# Altium footprint library Misc.PcbLib: 4 footprints
Each footprint in its own frame and in the unit in brackets; x right, y up, seen from the top. Pads: shape width x height; smd on the part's side, far side on the other; paste and mask are expansions set on the pad; w line width, h text height; cw(c..) or ccw(c..) is an arc to the next point about the centre after c.
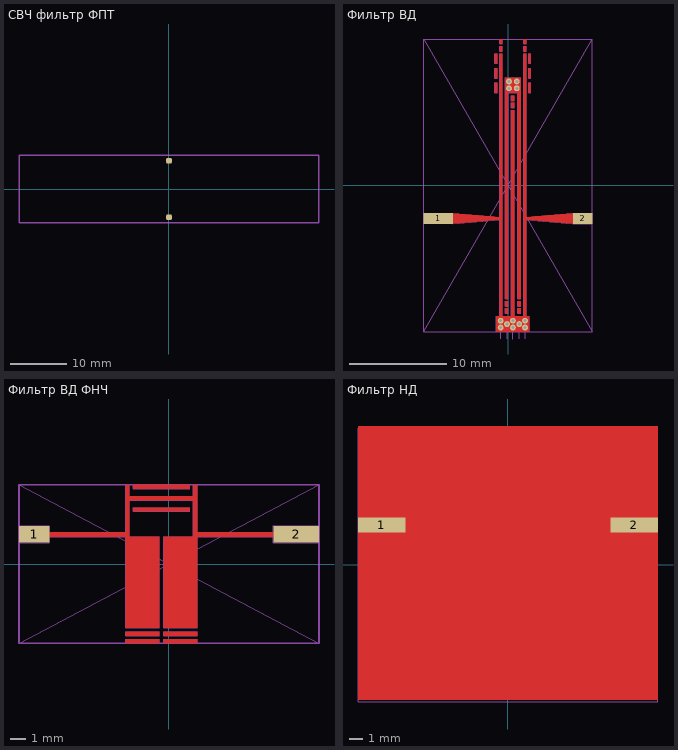
[diagram p0: the footprints below, top view; thin cyan lines are the x and y axes]

## СВЧ фильтр ФПТ [mm]
pads (2):
  rrect50% 1x1 / inner rrect50% 0x0 / far side rrect50% 0x0 all layers, no hole: 1(0,5) 2(0,-5)
Bottom Sborka:
  lines w0.25: -26.5,-6 26.502,-6 ; -26.5,-6 -26.5,6.002 ; -26.5,-6 -26.5,6.002 ; -26.5,-6 26.502,-6 ; -26.5,6.002 26.502,6.002 ; -26.5,6.002 26.502,6.002 ; 26.502,-6 26.502,6.002 ; 26.502,-6 26.502,6.002
Top Sborka:
  lines w0.25: -26.5,-6 -26.5,6 26.5,6 26.5,-6 -26.5,-6
3D body "экран ФПТ(57х16).stp": height 10, standoff -4, extent -27.75,-7.1 27.75,7.4

## Фильтр ВД [mm]
pads (14):
  rect 3x1.1 / inner rect 0x0 / far side rect 0x0 all layers, no hole: 1(-7.15,-3.375)
  rect 2x1.1 / inner rect 0x0 / far side rect 0x0 all layers, no hole: 2(7.65,-3.375)
  round 0.6 hole 0.3: 3(-0.75,-14.55) 3(-0.75,-13.85) 3(-0.1,-14.2) 3(0.1,9.95) 3(0.1,10.65) 3(0.5,-14.55) 3(0.5,-13.85) 3(0.9,9.95) 3(0.9,10.65) 3(1.15,-14.2) 3(1.75,-14.55) 3(1.75,-13.85)
Top Layer:
  region: -5.65,-2.825 -1.75,-3.175 -0.85,-3.25 -0.85,-3.5 -4.967,-3.861 -5.65,-3.926
  region: 6.65,-2.825 2.75,-3.175 1.85,-3.25 1.85,-3.5 5.966,-3.861 6.65,-3.926
  region: -0.85,13.5 -0.6,13.5 -0.6,-13.4 -0.85,-13.4
  region: 1.6,13.5 1.85,13.5 1.85,-13.4 1.6,-13.4
  region: -1.35,13.5 -1.1,13.5 -1.1,12.5 -1.35,12.5
  region: -1.35,12 -1.1,12 -1.1,11 -1.35,11
  region: -1.35,10.5 -1.1,10.5 -1.1,9.5 -1.35,9.5
  region: 2.1,13.5 2.35,13.5 2.35,12.5 2.1,12.5
  region: 2.1,12 2.35,12 2.35,11 2.1,11
  region: 2.1,10.5 2.35,10.5 2.35,9.5 2.1,9.5
  region: -0.3,11.05 1.3,11.05 1.3,9.5 -0.3,9.5
  region: -0.3,9.5 0,9.5 0,-11.6 -0.3,-11.6
  region: 1,9.5 1.3,9.5 1.3,-11.6 1,-11.6
  region: 0.65,-13.4 0.35,-13.4 0.35,7.7 0.65,7.7
  region: -0.3,-11.85 0,-11.85 0,-12.35 -0.3,-12.35
  region: -0.3,-12.6 0,-12.6 0,-13.1 -0.3,-13.1
  region: 1.3,-12.35 1,-12.35 1,-11.85 1.3,-11.85
  region: 1.3,-13.1 1,-13.1 1,-12.6 1.3,-12.6
  region: 0.65,8.7 0.35,8.7 0.35,9.2 0.65,9.2
  region: 0.65,7.95 0.35,7.95 0.35,8.45 0.65,8.45
  region: -1.2,-13.4 2.2,-13.4 2.2,-15 -1.2,-15
  region: -0.85,15 -0.6,15 -0.6,14.5 -0.85,14.5
  region: -0.85,14.25 -0.6,14.25 -0.6,13.75 -0.85,13.75
  region: 1.6,14.25 1.85,14.25 1.85,13.75 1.6,13.75
  region: 1.6,15 1.85,15 1.85,14.5 1.6,14.5
Bottom Sborka:
  lines w0.01: -8.65,-15 8.65,15 ; -8.65,15 8.65,-15 ; -5.65,-3.925 -0.85,-3.5 -0.85,-3.25 ; -5.65,-2.825 -0.85,-3.25 ; -1.2,-14.55 2.2,-14.55 ; -1.2,-14.2 2.2,-14.2 ; -1.2,-13.85 2.2,-13.85 ; -0.75,-15.725 -0.75,-13.4 ; -0.3,9.95 1.3,9.95 ; -0.3,10.65 1.3,10.65 ; -0.1,-15.7 -0.1,-13.375 ; 0.1,9.5 0.1,11.05 ; 0.5,-15.725 0.5,-13.4 ; 0.9,9.5 0.9,11.05 ; 1.15,-15.725 1.15,-13.4 ; 1.75,-15.725 1.75,-13.4 ; 6.65,-3.925 1.85,-3.5 1.85,-3.25 ; -0.85,-3.25 -0.85,-13.4 -0.6,-13.4 -0.6,-3.25 ; -0.85,-3.25 -0.6,-3.25 ; -0.85,-3.25 -0.85,13.5 -0.6,13.5 -0.6,-3.25 ; -0.85,-3.25 -0.6,-3.25 ; -0.3,9.5 1.3,9.5 ; -0.3,9.5 -0.3,11.05 1.3,11.05 1.3,9.5 ; -0.3,9.5 -0.3,-11.6 0,-11.6 0,9.5 -0.3,9.5 ; 1.3,9.5 1.3,-11.6 1,-11.6 1,9.5 1.3,9.5 ; 1.6,-3.25 1.6,13.5 1.85,13.5 1.85,-3.25 ; 1.6,-3.25 1.85,-3.25 ; 1.6,-3.25 1.6,-13.4 1.85,-13.4 1.85,-3.25 ; 1.6,-3.25 1.85,-3.25 ; 1.85,-3.25 6.65,-2.825 ; 6.65,-2.826 8.65,-2.826 8.65,-3.926 6.65,-3.926 6.65,-2.826 ; -1.35,9.5 -1.35,10.5 -1.1,10.5 -1.1,9.5 -1.35,9.5 ; -1.35,11 -1.35,12 -1.1,12 -1.1,11 -1.35,11 ; -1.35,12.5 -1.35,13.5 -1.1,13.5 -1.1,12.5 -1.35,12.5 ; -1.2,-15 2.2,-15 2.2,-13.4 -1.2,-13.4 -1.2,-15 ; -0.85,13.75 -0.85,14.25 -0.6,14.25 -0.6,13.75 -0.85,13.75 ; -0.85,14.5 -0.85,15 -0.6,15 -0.6,14.5 -0.85,14.5 ; -0.3,-13.1 -0.3,-12.6 0,-12.6 0,-13.1 -0.3,-13.1 ; -0.3,-12.35 -0.3,-11.85 0,-11.85 0,-12.35 -0.3,-12.35 ; 0.35,-13.4 0.35,7.7 0.65,7.7 0.65,-13.4 0.35,-13.4 ; 0.35,7.95 0.35,8.45 0.65,8.45 0.65,7.95 0.35,7.95 ; 0.35,8.7 0.35,9.2 0.65,9.2 0.65,8.7 0.35,8.7 ; 1,-13.1 1,-12.6 1.3,-12.6 1.3,-13.1 1,-13.1 ; 1,-12.35 1,-11.85 1.3,-11.85 1.3,-12.35 1,-12.35 ; 1.6,13.75 1.6,14.25 1.85,14.25 1.85,13.75 1.6,13.75 ; 1.6,14.5 1.6,15 1.85,15 1.85,14.5 1.6,14.5 ; 2.1,9.5 2.1,10.5 2.35,10.5 2.35,9.5 2.1,9.5 ; 2.1,11 2.1,12 2.35,12 2.35,11 2.1,11 ; 2.1,12.5 2.1,13.5 2.35,13.5 2.35,12.5 2.1,12.5
  lines w0.1: -8.65,-15 8.65,-15 8.65,15 -8.65,15 -8.65,-15

## Фильтр ВД ФНЧ [mm]
height 11.2
pads (2):
  rect 2x1.1 / inner rect 0x0 / far side rect 0x0 all layers, no hole: 1(-8.85,1.95)
  rect 3x1.1 / inner rect 0x0 / far side rect 0x0 all layers, no hole: 2(8.35,1.95)
Top Layer:
  region: -2.35,3.7 1.35,3.7 1.35,3.45 -2.35,3.45
  region: -2.6,4.45 1.6,4.45 1.6,4.2 -2.6,4.2
  region: -2.35,5.2 1.35,5.2 1.35,4.95 -2.35,4.95
  region: 6.85,2.1 1.85,2.1 1.85,1.8 6.85,1.8
  region: 1.85,5.2 1.6,5.2 1.6,1.8 -0.35,1.8 -0.35,-4.2 1.85,-4.2
  region: 1.85,-4.45 -0.35,-4.45 -0.35,-4.7 1.85,-4.7
  region: 1.85,-4.95 -0.35,-4.95 -0.35,-5.2 1.85,-5.2
  region: -2.85,-4.95 -0.65,-4.95 -0.65,-5.2 -2.85,-5.2
  region: -2.85,-4.45 -0.65,-4.45 -0.65,-4.7 -2.85,-4.7
  region: -2.85,5.2 -2.6,5.2 -2.6,1.8 -0.65,1.8 -0.65,-4.2 -2.85,-4.2
  region: -7.85,2.1 -2.85,2.1 -2.85,1.8 -7.85,1.8
Bottom Sborka:
  lines w0.01: -9.85,-5.2 9.85,5.2 ; -9.85,5.2 9.85,-5.2 ; -2.85,1.8 -0.65,1.8 -0.65,-4.2 -2.85,-4.2 -2.85,1.8 ; -2.85,1.8 -2.6,1.8 -2.6,5.2 -2.85,5.2 -2.85,1.8 ; -2.85,1.8 -2.85,2.1 -7.85,2.1 -7.85,1.8 -2.85,1.8 ; 1.85,1.8 -0.35,1.8 -0.35,-4.2 1.85,-4.2 1.85,1.8 ; 1.85,1.8 1.6,1.8 1.6,5.2 1.85,5.2 1.85,1.8 ; 1.85,1.8 1.85,2.1 6.85,2.1 6.85,1.8 1.85,1.8 ; -9.85,1.399 -9.85,2.499 -7.85,2.499 -7.85,1.399 -9.85,1.399 ; -2.85,-5.2 -0.65,-5.2 -0.65,-4.95 -2.85,-4.95 -2.85,-5.2 ; -2.85,-4.7 -0.65,-4.7 -0.65,-4.45 -2.85,-4.45 -2.85,-4.7 ; -2.6,4.2 -2.6,4.45 1.6,4.45 1.6,4.2 -2.6,4.2 ; -2.35,3.45 -2.35,3.7 1.35,3.7 1.35,3.45 -2.35,3.45 ; -2.35,4.95 -2.35,5.2 1.35,5.2 1.35,4.95 -2.35,4.95 ; -0.35,-5.2 1.85,-5.2 1.85,-4.95 -0.35,-4.95 -0.35,-5.2 ; -0.35,-4.7 1.85,-4.7 1.85,-4.45 -0.35,-4.45 -0.35,-4.7 ; 6.85,1.4 6.85,2.5 9.85,2.5 9.85,1.4 6.85,1.4
  lines w0.1: -9.85,-5.2 9.85,-5.2 9.85,5.2 -9.85,5.2 -9.85,-5.2

## Фильтр НД [mm]
height 11.2
pads (2):
  rect 3.5x1.1 / inner rect 0x0 / far side rect 0x0 all layers, no hole: 1(-9.3,2.925) 2(9.3,2.925)
Top Layer:
  region: -2.55,-6.45 -0.15,-6.45 -0.15,-6.95 -2.55,-6.95
  region: 0.15,-6.45 2.55,-6.45 2.55,-6.95 0.15,-6.95
  region: -2.55,-4.95 -0.15,-4.95 -0.15,-5.45 -2.55,-5.45
  region: -2.55,-5.7 -0.15,-5.7 -0.15,-6.2 -2.55,-6.2
  region: 0.15,-5.7 2.55,-5.7 2.55,-6.2 0.15,-6.2
  region: 0.15,-4.95 2.55,-4.95 2.55,-5.45 0.15,-5.45
  region: 7.55,2.8 7.55,3.05 2.55,3.05 2.55,7.2 2.3,7.2 2.3,2.8 0.15,2.8 0.15,-4.7 2.55,-4.7 2.55,2.8
  region: -7.55,2.8 -7.55,3.05 -2.55,3.05 -2.55,7.2 -2.3,7.2 -2.3,2.8 -0.15,2.8 -0.15,-4.7 -2.55,-4.7 -2.55,2.8
  region: -2.05,5.7 2.05,5.7 2.05,5.45 -2.05,5.45
  region: -2.05,6.45 2.05,6.45 2.05,6.2 -2.05,6.2
  region: -2.05,7.2 2.05,7.2 2.05,6.95 -2.05,6.95
  pour cut-out: -11.05,10.2 11.05,10.2 11.05,-9.95 -11.05,-9.95
  lines w0.01: -2.55,3.05 -2.55,7.2
Bottom Sborka:
  lines w0.01: -2.55,7.2 -2.55,8.7 -2.55,10.2 ; -11.05,-10.075 11.05,-10.075 11.05,10.075 -11.05,10.075 -11.05,-10.075